# Altium schematic symbol library Батареи.SchLib: 3 symbols
Pins are listed as number, name and electrical type; pins without a type are passive.

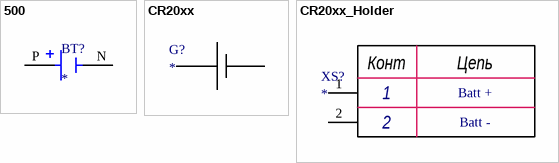
[diagram p0: symbols 500 to CR20xx_Holder]

## 500
designator BT?
Battery Holder 1 Cells PBT; MF: Keystone Electronics Corp.; MP: 500; Price: None; SnapEDA_Link: https://www.snapeda.com/parts/500/Keystone+Electronics/view-part/?ref=snap; Availability: In Stock; Value: *; Purchase-URL: https://pricing.snapeda.com/search/part/500/?ref=eda; Package: LFCSP-10 Keystone; Check_prices: https://www.snapeda.com/parts/500/Keystone+Electronics/view-part/?ref=eda
footprint BAT_500
pins: N NEG, P POS

## CR20xx
designator G?
pins: 1 +, 2 +

## CR20xx_Holder
designator XS?
pins: 1, 2
text: Конт; Цепь; Batt +; Batt -